# Altium footprint library CLOCK.PcbLib: 3 footprints
Each footprint in its own frame and in the unit in brackets; x right, y up, seen from the top. Pads: shape width x height; smd on the part's side, far side on the other; paste and mask are expansions set on the pad; w line width, h text height; cw(c..) or ccw(c..) is an arc to the next point about the centre after c.
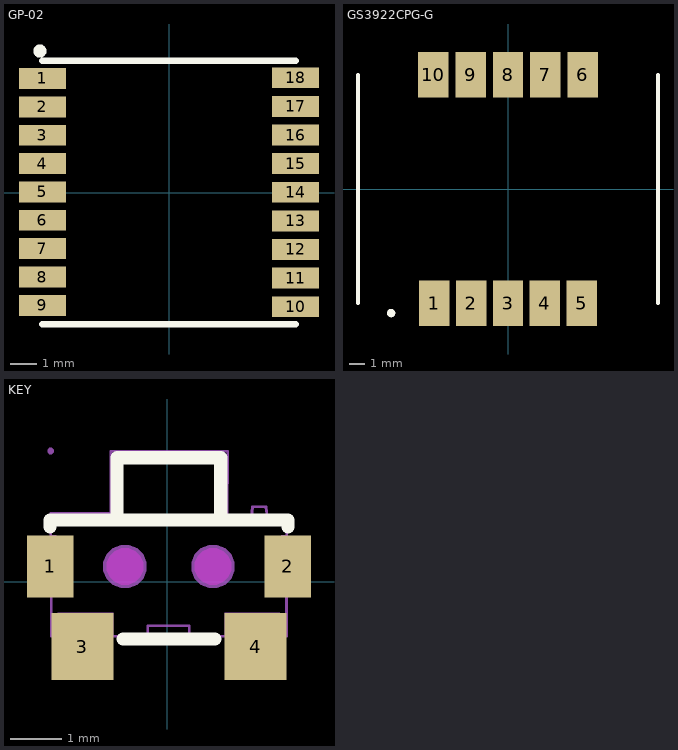
[diagram p0: the footprints below, top view; thin cyan lines are the x and y axes]

## GP-02 [mm]
pads (18):
  rect 1.8x0.8 smd: 1(-4.85,4.375) 2(-4.85,3.288) 3(-4.85,2.2) 4(-4.85,1.113) 5(-4.85,0.025) 6(-4.85,-1.062) 7(-4.85,-2.15) 8(-4.85,-3.237) 9(-4.85,-4.325) 10(4.85,-4.375) 11(4.85,-3.278) 12(4.85,-2.181) 13(4.85,-1.084) 14(4.85,0.013) 15(4.85,1.109) 16(4.85,2.206) 17(4.85,3.303) 18(4.85,4.4)
Top Overlay:
  circle w0.254: c-4.95,5.425 r0.125
  lines w0.254: -4.85,-5.05 4.85,-5.05 ; -4.85,5.05 4.85,5.05
3D body: height 2.3, standoff 0.1, extent -4.875,-5.05 4.85,5.05

## GS3922CPG-G [mm]
height 3.75
pads (10):
  rect 2x3 smd: 1(-4.834,-7.5) 2(-2.417,-7.5) 3(0,-7.5) 4(2.417,-7.5) 5(4.834,-7.5) 6(4.904,7.5) 7(2.452,7.5) 8(0,7.5) 9(-2.452,7.5) 10(-4.904,7.5)
Top Overlay:
  circle w0.254: c-7.675,-8.15 r0.146
  lines w0.254: -9.85,-7.5 -9.85,7.5 ; 9.85,-7.5 9.85,7.5
3D body: height 2.3, standoff 0.1, extent -9.85,-7.475 9.85,7.525

## KEY [mm]
pads (4):
  rect 0.899x1.199 smd mask+0.051: 1(-2.268,0.295) 2(2.332,0.295)
  rect 1.199x1.3 smd mask+0.051: 3(-1.643,-1.255) 4(1.707,-1.255)
Top Overlay:
  lines w0.254: -2.271,1.057 -2.271,1.194 2.332,1.194 2.332,1.057 ; -0.97,1.194 -0.97,2.395 1.031,2.395 1.031,1.194 ; -0.859,-1.105 0.919,-1.105
Keep-Out Layer:
  board cut-out: -0.47,0.295 -0.47,0.364 -0.523,0.493 -0.622,0.592 -0.751,0.645 -0.89,0.645 -1.019,0.592 -1.118,0.493 -1.171,0.364 -1.171,0.295 -1.171,0.225 -1.118,0.096 -1.019,-0.003 -0.89,-0.056 -0.751,-0.056 -0.622,-0.003 -0.523,0.096 -0.47,0.225
  board cut-out: 1.232,0.295 1.232,0.364 1.179,0.493 1.08,0.592 0.951,0.645 0.812,0.645 0.683,0.592 0.584,0.493 0.531,0.364 0.531,0.295 0.531,0.225 0.584,0.096 0.683,-0.003 0.812,-0.056 0.951,-0.056 1.08,-0.003 1.179,0.096 1.232,0.225
Mechanical 1:
  circle w0.005: c-0.82,0.295 r0.351
  circle w0.005: c0.881,0.295 r0.351
Mechanical 6:
  circle w0.254: c-2.461,0.358 r0.079
Mechanical 15:
  circle w0.051: c-0.82,0.295 r0.175
  circle w0.051: c0.881,0.295 r0.175
  region: -0.406,0.295 -0.406,0.377 -0.469,0.529 -0.586,0.646 -0.738,0.709 -0.903,0.709 -1.055,0.646 -1.171,0.529 -1.234,0.377 -1.234,0.295 -1.234,0.212 -1.171,0.06 -1.055,-0.056 -0.903,-0.119 -0.738,-0.119 -0.586,-0.056 -0.469,0.06 -0.406,0.212
  region: 1.295,0.295 1.295,0.377 1.232,0.529 1.116,0.646 0.964,0.709 0.799,0.709 0.647,0.646 0.53,0.529 0.467,0.377 0.467,0.295 0.467,0.212 0.53,0.06 0.647,-0.056 0.799,-0.119 0.964,-0.119 1.116,-0.056 1.232,0.06 1.295,0.212
  region: -2.195,2.527 -2.195,2.553 -2.23,2.588 -2.281,2.588 -2.316,2.553 -2.316,2.527 -2.316,2.502 -2.281,2.466 -2.23,2.466 -2.195,2.502
  region: -2.144,0.246 -2.243,0.246 -2.245,0.246 -2.245,0.894 -2.243,0.897 -2.144,0.897 -2.144,0.246 -2.149,0.246 -2.164,0.246
  region: 2.195,0.246 2.304,0.246 2.306,0.246 2.306,0.894 2.197,0.894 2.197,0.246
  region: -2.123,-0.605 -2.123,-1.054 -1.875,-1.054 -1.875,-1.156 -1.476,-1.156 -1.476,-1.054 -1.044,-1.054 -1.044,-0.605 -1.046,-0.605 -2.123,-0.605 -2.123,-0.612 -2.123,-0.607
  region: 2.177,-0.605 2.177,-1.054 1.928,-1.054 1.928,-1.153 1.527,-1.153 1.527,-1.054 1.105,-1.054 1.105,-1.057 1.105,-0.942 1.105,-0.828 1.105,-0.607 1.107,-0.605 2.177,-0.602 2.177,-0.61 2.177,-0.605
  lines w0.051: -2.25,1.321 -1.097,1.323 -1.092,2.522 1.168,2.522 1.158,1.247 1.626,1.245 1.646,1.445 1.908,1.445 1.928,1.247 2.306,1.245 2.304,-1.057 2.174,-1.054 1.925,-1.054 1.925,-1.156 1.527,-1.156 1.527,-1.054 0.427,-1.054 0.424,-0.856 -0.376,-0.853 -0.376,-1.054 -1.476,-1.054 -1.476,-1.153 -1.875,-1.153 -1.875,-1.054 -2.245,-1.057 -2.25,1.321
3D body: height 1, standoff 0, extent -2.25,-1.1 2.3,1.2
3D body: height 0.5, standoff 0, extent -0.95,1.175 1.025,2.4